# Altium schematic symbol library Q_NFET_SMALL.Schlib: 1 symbol
Pins are listed as number, name and electrical type; pins without a type are passive.

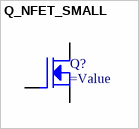
[diagram p0: symbol Q_NFET_SMALL]

## Q_NFET_SMALL
designator Q?
Mosfet, N Channel
pins: DRAIN (power), GATE, SOURCE (power)